# EAGLE library part ADM3260 (library Fugu_LSI)
>Hot Swappable, Dual I2C Isolators with Integrated DC-to-DC Converter
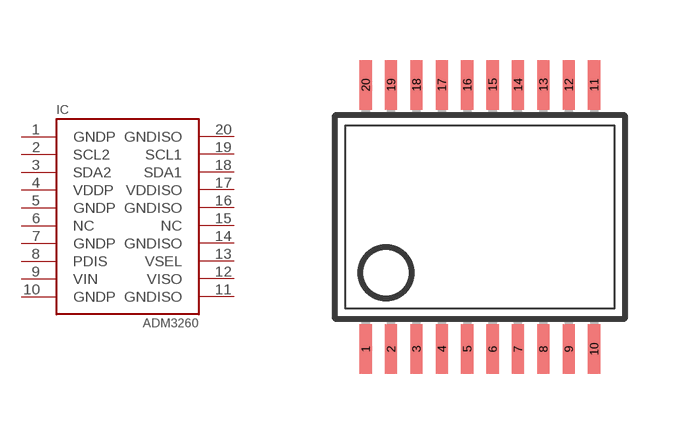
[diagram p25: symbol with the pads of SSOP20; footprint SSOP20]

Designator prefix IC

## ADM3260  [SSOP20]
1  GNDP  pwr
2  SCL2
3  SDA2
4  VDDP  pwr
5  GNDP
6  NC  nc
7  GNDP
8  PDIS  pwr
9  VIN  pwr
10  GNDP  pwr
11  GNDISO  pwr
12  VISO  pwr
13  VSEL
14  GNDISO  pwr
15  NC  nc
16  GNDISO
17  VDDISO  pwr
18  SDA1
19  SCL1
20  GNDISO  pwr

## Footprint SSOP20 (pad centres in mm)
Small Shrink Outline Package
smd 0.305 x 1.245: 1 -2.857,-3.302; 2 -2.222,-3.302; 3 -1.587,-3.302; 4 -0.952,-3.302; 5 -0.317,-3.302; 6 0.318,-3.302; 7 0.953,-3.302; 8 1.588,-3.302; 9 2.223,-3.302; 10 2.858,-3.302; 11 2.858,3.302; 12 2.223,3.302; 13 1.588,3.302; 14 0.953,3.302; 15 0.318,3.302; 16 -0.317,3.302; 17 -0.952,3.302; 18 -1.587,3.302; 19 -2.222,3.302; 20 -2.857,3.302